# Altium footprint library MCP73871_Battery charger.PcbLib: 1 footprints
Each footprint in its own frame and in the unit in brackets; x right, y up, seen from the top. Pads: shape width x height; smd on the part's side, far side on the other; paste and mask are expansions set on the pad; w line width, h text height; cw(c..) or ccw(c..) is an arc to the next point about the centre after c.
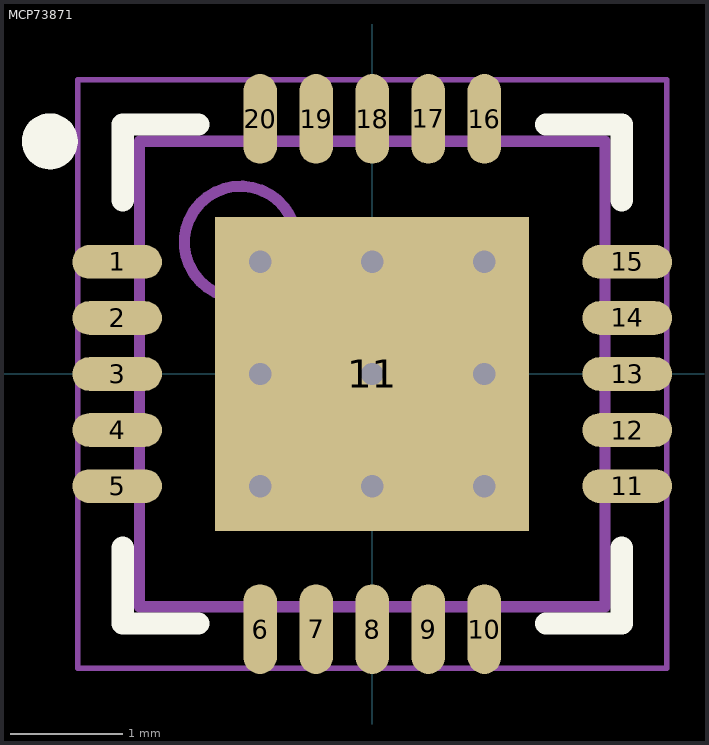
[diagram p0: the footprint, top view; thin cyan lines are the x and y axes]

## MCP73871 [mm] "QFN, 20-Leads, Body 4,08x4,08mm, Pitch 0,50mm, Thermal Pad 4,00x2,20mm, IPC Medium Density"
height 0.9
pads (21):
  oval 0.8x0.3 smd: 1(-2.275,1) 2(-2.275,0.5) 3(-2.275,0) 4(-2.275,-0.5) 5(-2.275,-1) 11(2.275,-1) 12(2.275,-0.5) 13(2.275,0) 14(2.275,0.5) 15(2.275,1)
  oval 0.3x0.8 smd: 6(-1,-2.275) 7(-0.5,-2.275) 8(0,-2.275) 9(0.5,-2.275) 10(1,-2.275) 16(1,2.275) 17(0.5,2.275) 18(0,2.275) 19(-0.5,2.275) 20(-1,2.275)
  rect 2.8x2.8 smd: 11(0,0)
via -1,-1 diameter 0.5 hole 0.2
via 1,-1 diameter 0.5 hole 0.2
via 0,-1 diameter 0.5 hole 0.2
via -1,1 diameter 0.5 hole 0.2
via 0,1 diameter 0.5 hole 0.2
via 1,1 diameter 0.5 hole 0.2
via -1,0 diameter 0.5 hole 0.2
via 1,0 diameter 0.5 hole 0.2
via 0,0 diameter 0.5 hole 0.2
Top Overlay:
  circle w0.25: c-2.875,2.075 r0.125
  lines w0.2: -2.225,-1.55 -2.225,-2.225 -1.55,-2.225 ; -2.225,1.55 -2.225,2.225 -1.55,2.225 ; 1.55,-2.225 2.225,-2.225 2.225,-1.55 ; 1.55,2.225 2.225,2.225 2.225,1.55
Mechanical 13:
  circle w0.1: c-1.175,1.175 r0.5
  lines w0.1: -2.075,-2.075 -2.075,2.075 2.075,2.075 2.075,-2.075 -2.075,-2.075
Mechanical 15:
  lines w0.05: -2.625,-2.625 2.625,-2.625 2.625,2.625 -2.625,2.625 -2.625,-2.625
  lines w0.1: -0.5,0 0.5,0 ; 0,-0.5 0,0.5
3D body "MCP73871.step": height 0.9, standoff 0, extent -2.095,-2.095 2.095,2.095